# Altium footprint library Conn_TE_Connectivity_1375799-1_eec_MFG.PcbLib: 1 footprints
Each footprint in its own frame and in the unit in brackets; x right, y up, seen from the top. Pads: shape width x height; smd on the part's side, far side on the other; paste and mask are expansions set on the pad; w line width, h text height; cw(c..) or ccw(c..) is an arc to the next point about the centre after c.
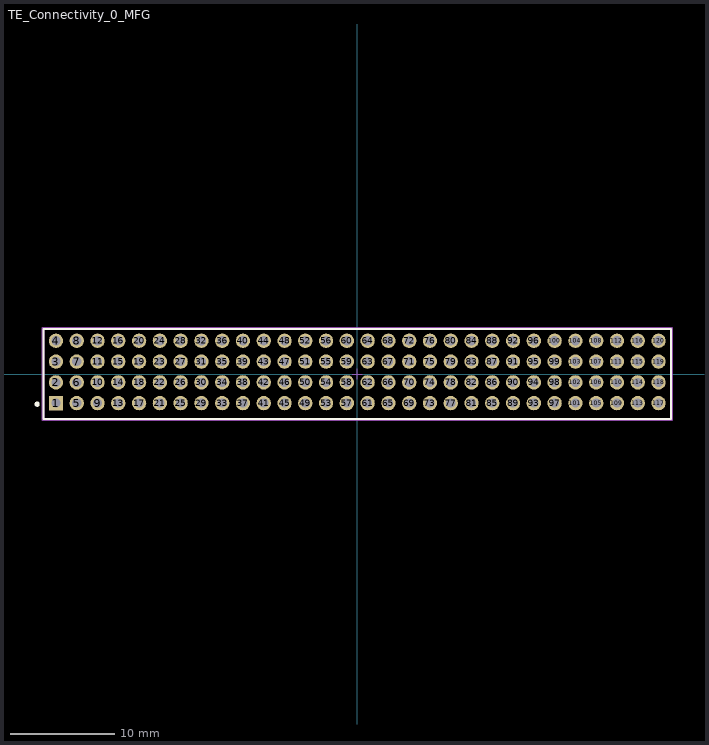
[diagram p0: the footprint, top view; thin cyan lines are the x and y axes]

## TE_Connectivity_0_MFG [mm]
pads (120):
  rect 1.38x1.38 hole 0.88 paste-1000 mask+0: 1(-29,-2.805)
  round 1.38 hole 0.88 paste-1000 mask+0: 2(-29,-0.805) 3(-29,1.195) 4(-29,3.195) 5(-27,-2.805) 6(-27,-0.805) 7(-27,1.195) 8(-27,3.195) 9(-25,-2.805) 10(-25,-0.805) 11(-25,1.195) 12(-25,3.195) 13(-23,-2.805) 14(-23,-0.805) 15(-23,1.195) 16(-23,3.195) 17(-21,-2.805) 18(-21,-0.805) 19(-21,1.195) 20(-21,3.195) 21(-19,-2.805) 22(-19,-0.805) 23(-19,1.195) 24(-19,3.195) 25(-17,-2.805) 26(-17,-0.805) 27(-17,1.195) 28(-17,3.195) 29(-15,-2.805) 30(-15,-0.805) 31(-15,1.195) 32(-15,3.195) 33(-13,-2.805) 34(-13,-0.805) 35(-13,1.195) 36(-13,3.195) 37(-11,-2.805) 38(-11,-0.805) 39(-11,1.195) 40(-11,3.195) 41(-9,-2.805) 42(-9,-0.805) 43(-9,1.195) 44(-9,3.195) 45(-7,-2.805) 46(-7,-0.805) 47(-7,1.195) 48(-7,3.195) 49(-5,-2.805) 50(-5,-0.805) 51(-5,1.195) 52(-5,3.195) 53(-3,-2.805) 54(-3,-0.805) 55(-3,1.195) 56(-3,3.195) 57(-1,-2.805) 58(-1,-0.805) 59(-1,1.195) 60(-1,3.195) 61(1,-2.805) 62(1,-0.805) 63(1,1.195) 64(1,3.195) 65(3,-2.805) 66(3,-0.805) 67(3,1.195) 68(3,3.195) 69(5,-2.805) 70(5,-0.805) 71(5,1.195) 72(5,3.195) 73(7,-2.805) 74(7,-0.805) 75(7,1.195) 76(7,3.195) 77(9,-2.805) 78(9,-0.805) 79(9,1.195) 80(9,3.195) 81(11,-2.805) 82(11,-0.805) 83(11,1.195) 84(11,3.195) 85(13,-2.805) 86(13,-0.805) 87(13,1.195) 88(13,3.195) 89(15,-2.805) 90(15,-0.805) 91(15,1.195) 92(15,3.195) 93(17,-2.805) 94(17,-0.805) 95(17,1.195) 96(17,3.195) 97(19,-2.805) 98(19,-0.805) 99(19,1.195) 100(19,3.195) 101(21,-2.805) 102(21,-0.805) 103(21,1.195) 104(21,3.195) 105(23,-2.805) 106(23,-0.805) 107(23,1.195) 108(23,3.195) 109(25,-2.805) 110(25,-0.805) 111(25,1.195) 112(25,3.195) 113(27,-2.805) 114(27,-0.805) 115(27,1.195) 116(27,3.195) 117(29,-2.805) 118(29,-0.805) 119(29,1.195) 120(29,3.195)
Top Overlay:
  circle w0.25: c-30.815,-2.905 r0.125
  lines w0.2: -30.215,-4.325 30.215,-4.325 30.215,4.325 -30.215,4.325 -30.215,-4.325
Mechanical 10:
  lines w0.2: -30.315,-4.425 30.315,-4.425 30.315,4.425 -30.315,4.425 -30.315,-4.425
  text ".Designator" at 0,0 h1
Mechanical 12:
  lines w0.2: -30.215,-4.325 30.215,-4.325 30.215,4.325 -30.215,4.325 -30.215,-4.325
Mechanical 15:
  lines w0.1: -0.5,0 0.5,0 ; 0,-0.5 0,0.5
  lines w0.2: -30.315,-4.425 30.315,-4.425 30.315,4.425 -30.315,4.425 -30.315,-4.425
3D body "Conn_TE_Connectivity_1375799-1_eec.STEP": height 0.25, standoff 0, extent -30.315,-4.425 30.315,4.425